# EAGLE library part MC100EP451FAG (library on-semiconductor-01)
3.3V / 5V ECL 6-Bit Differential Register
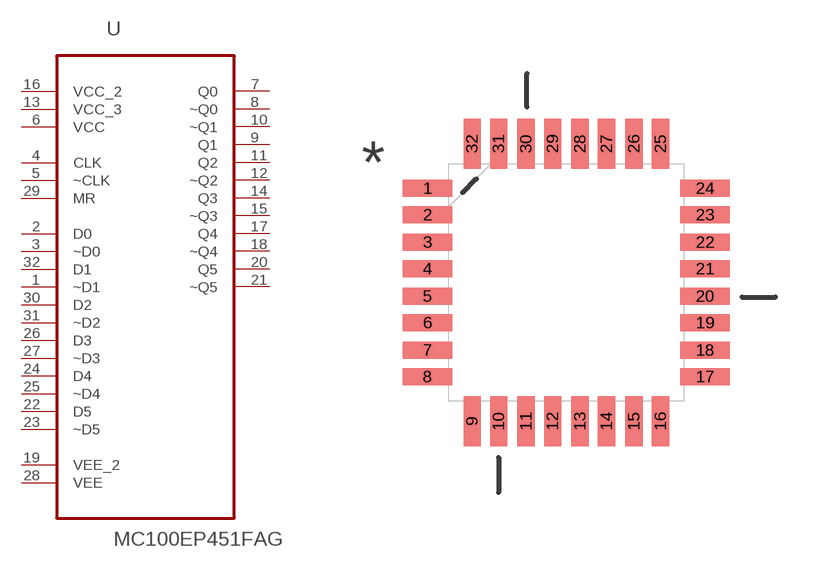
[diagram p121: symbol with the pads of QFP80P900X900X160-32N; footprint QFP80P900X900X160-32N]

Designator prefix U

## MC100EP451FAG (MPN: MC100EP451FAG; OC_FARNELL: -; OC_NEWARK: 45J0946; PACKAGE: LQFP-32; SUPPLIER: ON SEMICONDUCTOR)  [QFP80P900X900X160-32N]
1  ~D1  in
2  D0  in
3  ~D0  in
4  CLK  in
5  ~CLK  in
6  VCC  pwr
7  Q0  out
8  ~Q0  out
9  Q1  out
10  ~Q1  out
11  Q2  out
12  ~Q2  out
13  VCC_3  pwr
14  Q3  out
15  ~Q3  out
16  VCC_2  pwr
17  Q4  out
18  ~Q4  out
19  VEE_2  pas
20  Q5  pwr
21  ~Q5  out
22  D5  out
23  ~D5  out
24  D4  pwr
25  ~D4  in
26  D3  in
27  ~D3  in
28  VEE  pas
29  MR  out
30  D2  in
31  ~D2  in
32  D1  in

## Footprint QFP80P900X900X160-32N (pad centres in mm)
smd 1.473 x 0.508: 1 -4.115,2.794; 2 -4.115,2.007; 3 -4.115,1.194; 4 -4.115,0.406; 5 -4.115,-0.406; 6 -4.115,-1.194; 7 -4.115,-2.007; 8 -4.115,-2.794; 17 4.115,-2.794; 18 4.115,-2.007; 19 4.115,-1.194; 20 4.115,-0.406; 21 4.115,0.406; 22 4.115,1.194; 23 4.115,2.007; 24 4.115,2.794
smd 0.508 x 1.473: 9 -2.794,-4.115; 10 -2.007,-4.115; 11 -1.194,-4.115; 12 -0.406,-4.115; 13 0.406,-4.115; 14 1.194,-4.115; 15 2.007,-4.115; 16 2.794,-4.115; 25 2.794,4.115; 26 2.007,4.115; 27 1.194,4.115; 28 0.406,4.115; 29 -0.406,4.115; 30 -1.194,4.115; 31 -2.007,4.115; 32 -2.794,4.115